# Altium footprint library PcbLib1.PcbLib: 1 footprints
Each footprint in its own frame and in the unit in brackets; x right, y up, seen from the top. Pads: shape width x height; smd on the part's side, far side on the other; paste and mask are expansions set on the pad; w line width, h text height; cw(c..) or ccw(c..) is an arc to the next point about the centre after c.
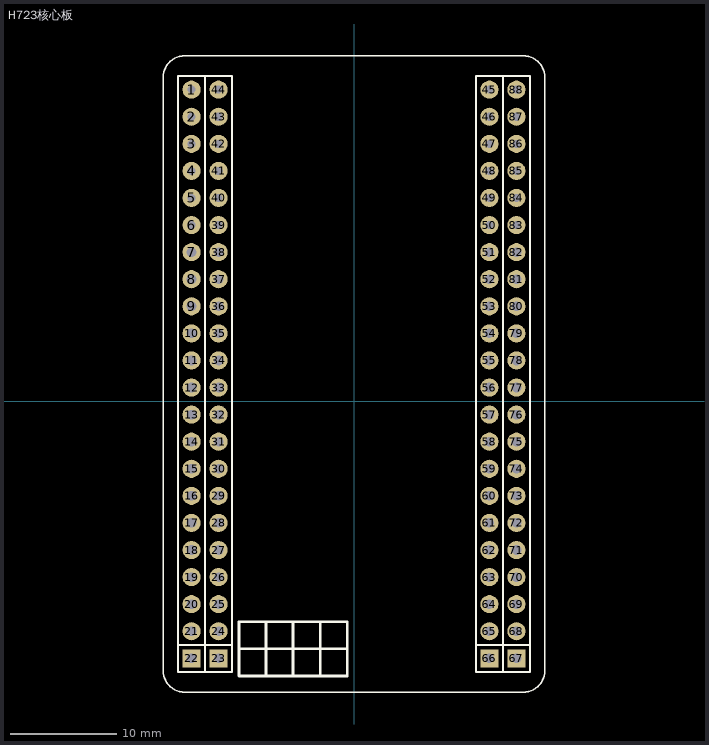
[diagram p0: the footprint, top view; thin cyan lines are the x and y axes]

## H723核心板 [mm]
pads (88):
  round 1.7 hole 0.762: 1(-15.24,29.21) 2(-15.24,26.67) 3(-15.24,24.13) 4(-15.24,21.59) 5(-15.24,19.05) 6(-15.24,16.51) 39(-12.7,16.51) 40(-12.7,19.05) 41(-12.7,21.59) 42(-12.7,24.13) 43(-12.7,26.67) 44(-12.7,29.21) 45(12.7,29.21) 46(12.7,26.67) 47(12.7,24.13) 48(12.7,21.59) 49(12.7,19.05) 50(12.7,16.51) 83(15.24,16.51) 84(15.24,19.05) 85(15.24,21.59) 86(15.24,24.13) 87(15.24,26.67) 88(15.24,29.21)
  round 1.7 hole 0.9: 7(-15.24,13.97) 8(-15.24,11.43) 9(-15.24,8.89) 10(-15.24,6.35) 11(-15.24,3.81) 12(-15.24,1.27) 13(-15.24,-1.27) 14(-15.24,-3.81) 15(-15.24,-6.35) 16(-15.24,-8.89) 17(-15.24,-11.43) 18(-15.24,-13.97) 19(-15.24,-16.51) 20(-15.24,-19.05) 21(-15.24,-21.59) 24(-12.7,-21.59) 25(-12.7,-19.05) 26(-12.7,-16.51) 27(-12.7,-13.97) 28(-12.7,-11.43) 29(-12.7,-8.89) 30(-12.7,-6.35) 31(-12.7,-3.81) 32(-12.7,-1.27) 33(-12.7,1.27) 34(-12.7,3.81) 35(-12.7,6.35) 36(-12.7,8.89) 37(-12.7,11.43) 38(-12.7,13.97) 51(12.7,13.97) 52(12.7,11.43) 53(12.7,8.89) 54(12.7,6.35) 55(12.7,3.81) 56(12.7,1.27) 57(12.7,-1.27) 58(12.7,-3.81) 59(12.7,-6.35) 60(12.7,-8.89) 61(12.7,-11.43) 62(12.7,-13.97) 63(12.7,-16.51) 64(12.7,-19.05) 65(12.7,-21.59) 68(15.24,-21.59) 69(15.24,-19.05) 70(15.24,-16.51) 71(15.24,-13.97) 72(15.24,-11.43) 73(15.24,-8.89) 74(15.24,-6.35) 75(15.24,-3.81) 76(15.24,-1.27) 77(15.24,1.27) 78(15.24,3.81) 79(15.24,6.35) 80(15.24,8.89) 81(15.24,11.43) 82(15.24,13.97)
  rect 1.7x1.7 hole 0.9: 22(-15.24,-24.13) 23(-12.7,-24.13) 66(12.7,-24.13) 67(15.24,-24.13)
Top Overlay:
  lines w0.152: -17.907,-25.273 ccw(c-15.875,-25.273) -15.875,-27.305 15.875,-27.305 ccw(c15.875,-25.273) 17.907,-25.273 17.907,30.353 ccw(c15.875,30.353) 15.875,32.385 -15.875,32.385 ccw(c-15.875,30.353) -17.907,30.353 -17.907,-25.273
  lines w0.2: -16.49,-22.88 -13.99,-22.88 ; -13.95,-22.88 -11.45,-22.88 ; 11.43,-20.32 11.43,-22.86 11.43,-25.4 ; 11.45,-22.88 13.95,-22.88 ; 13.99,-22.88 16.49,-22.88 ; -13.97,-25.4 -16.51,-25.4 -16.51,-23.495 -16.51,30.48 -11.43,30.48 -11.43,25.4 -11.43,-25.4 -13.97,-25.4 ; -13.97,-25.4 -13.97,30.48 -13.97,-18.415 -13.97,-25.4 ; 11.43,-25.4 11.43,-23.495 11.43,30.48 13.97,30.48 ; 11.43,-25.4 13.97,-25.4 ; 13.97,-25.4 13.97,30.48 ; 13.97,-25.4 13.97,-23.495 13.97,30.48 ; 13.97,-25.4 16.51,-25.4 16.51,30.48 13.97,30.48
  lines w0.254: -10.795,-23.241 -0.635,-23.241 ; -8.255,-25.781 -8.255,-20.701 ; -5.715,-25.781 -5.715,-20.701 ; -3.175,-25.781 -3.175,-20.701 ; -10.795,-25.781 -0.635,-25.781 -0.635,-20.701 -10.795,-20.701 -10.795,-25.781
3D body "HDR2.54-1P_M.STEP": height 8.5, standoff -3, extent 11.43,-22.86 13.97,-20.32
3D body "HDR2.54-1P_M.STEP": height 8.5, standoff -3, extent 11.43,-25.4 13.97,-22.86
3D body "HDR2.54-1P_M.STEP": height 8.5, standoff -3, extent 11.43,-17.78 13.97,-15.24
3D body "HDR2.54-1P_M.STEP": height 8.5, standoff -3, extent 11.43,-20.32 13.97,-17.78
3D body "HDR2.54-1P_M.STEP": height 8.5, standoff -3, extent 11.43,-12.7 13.97,-10.16
3D body "HDR2.54-1P_M.STEP": height 8.5, standoff -3, extent 11.43,-15.24 13.97,-12.7
3D body "HDR2.54-1P_M.STEP": height 8.5, standoff -3, extent 11.43,-7.62 13.97,-5.08
3D body "HDR2.54-1P_M.STEP": height 8.5, standoff -3, extent 11.43,-10.16 13.97,-7.62
3D body "HDR2.54-1P_M.STEP": height 8.5, standoff -3, extent 11.43,-2.54 13.97,0
3D body "HDR2.54-1P_M.STEP": height 8.5, standoff -3, extent 11.43,-5.08 13.97,-2.54
3D body "HDR2.54-1P_M.STEP": height 8.5, standoff -3, extent 11.43,0 13.97,2.54
3D body "HDR2.54-1P_M.STEP": height 8.5, standoff -3, extent 11.43,7.62 13.97,10.16
3D body "HDR2.54-1P_M.STEP": height 8.5, standoff -3, extent 11.43,5.08 13.97,7.62
3D body "HDR2.54-1P_M.STEP": height 8.5, standoff -3, extent 11.43,12.7 13.97,15.24
3D body "HDR2.54-1P_M.STEP": height 8.5, standoff -3, extent 11.43,10.16 13.97,12.7
3D body "HDR2.54-1P_M.STEP": height 8.5, standoff -3, extent 11.43,17.78 13.97,20.32
3D body "HDR2.54-1P_M.STEP": height 8.5, standoff -3, extent 11.43,15.24 13.97,17.78
3D body "HDR2.54-1P_M.STEP": height 8.5, standoff -3, extent 11.43,22.86 13.97,25.4
3D body "HDR2.54-1P_M.STEP": height 8.5, standoff -3, extent 11.43,20.32 13.97,22.86
3D body "HDR2.54-1P_M.STEP": height 8.5, standoff -3, extent 11.43,2.54 13.97,5.08
3D body "HDR2.54-1P_M.STEP": height 8.5, standoff -3, extent 13.97,-22.86 16.51,-20.32
3D body "HDR2.54-1P_M.STEP": height 8.5, standoff -3, extent 13.97,-25.4 16.51,-22.86
3D body "HDR2.54-1P_M.STEP": height 8.5, standoff -3, extent 13.97,-17.78 16.51,-15.24
3D body "HDR2.54-1P_M.STEP": height 8.5, standoff -3, extent 13.97,-20.32 16.51,-17.78
3D body "HDR2.54-1P_M.STEP": height 8.5, standoff -3, extent 13.97,-12.7 16.51,-10.16
3D body "HDR2.54-1P_M.STEP": height 8.5, standoff -3, extent 13.97,-15.24 16.51,-12.7
3D body "HDR2.54-1P_M.STEP": height 8.5, standoff -3, extent 13.97,-7.62 16.51,-5.08
3D body "HDR2.54-1P_M.STEP": height 8.5, standoff -3, extent 13.97,-10.16 16.51,-7.62
3D body "HDR2.54-1P_M.STEP": height 8.5, standoff -3, extent 13.97,-2.54 16.51,0
3D body "HDR2.54-1P_M.STEP": height 8.5, standoff -3, extent 13.97,-5.08 16.51,-2.54
3D body "HDR2.54-1P_M.STEP": height 8.5, standoff -3, extent 13.97,0 16.51,2.54
3D body "HDR2.54-1P_M.STEP": height 8.5, standoff -3, extent 13.97,7.62 16.51,10.16
3D body "HDR2.54-1P_M.STEP": height 8.5, standoff -3, extent 13.97,5.08 16.51,7.62
3D body "HDR2.54-1P_M.STEP": height 8.5, standoff -3, extent 13.97,12.7 16.51,15.24
3D body "HDR2.54-1P_M.STEP": height 8.5, standoff -3, extent 13.97,10.16 16.51,12.7
3D body "HDR2.54-1P_M.STEP": height 8.5, standoff -3, extent 13.97,17.78 16.51,20.32
3D body "HDR2.54-1P_M.STEP": height 8.5, standoff -3, extent 13.97,15.24 16.51,17.78
3D body "HDR2.54-1P_M.STEP": height 8.5, standoff -3, extent 13.97,22.86 16.51,25.4
3D body "HDR2.54-1P_M.STEP": height 8.5, standoff -3, extent 13.97,20.32 16.51,22.86
3D body "HDR2.54-1P_M.STEP": height 8.5, standoff -3, extent 13.97,2.54 16.51,5.08
3D body "HDR2.54-1P_M.STEP": height 8.5, standoff -3, extent -16.51,-22.86 -13.97,-20.32
3D body "HDR2.54-1P_M.STEP": height 8.5, standoff -3, extent -16.51,-25.4 -13.97,-22.86
3D body "HDR2.54-1P_M.STEP": height 8.5, standoff -3, extent -16.51,-17.78 -13.97,-15.24
3D body "HDR2.54-1P_M.STEP": height 8.5, standoff -3, extent -16.51,-20.32 -13.97,-17.78
3D body "HDR2.54-1P_M.STEP": height 8.5, standoff -3, extent -16.51,-12.7 -13.97,-10.16
3D body "HDR2.54-1P_M.STEP": height 8.5, standoff -3, extent -16.51,-15.24 -13.97,-12.7
3D body "HDR2.54-1P_M.STEP": height 8.5, standoff -3, extent -16.51,-7.62 -13.97,-5.08
3D body "HDR2.54-1P_M.STEP": height 8.5, standoff -3, extent -16.51,-10.16 -13.97,-7.62
3D body "HDR2.54-1P_M.STEP": height 8.5, standoff -3, extent -16.51,-2.54 -13.97,0
3D body "HDR2.54-1P_M.STEP": height 8.5, standoff -3, extent -16.51,-5.08 -13.97,-2.54
3D body "HDR2.54-1P_M.STEP": height 8.5, standoff -3, extent -16.51,0 -13.97,2.54
3D body "HDR2.54-1P_M.STEP": height 8.5, standoff -3, extent -16.51,7.62 -13.97,10.16
3D body "HDR2.54-1P_M.STEP": height 8.5, standoff -3, extent -16.51,5.08 -13.97,7.62
3D body "HDR2.54-1P_M.STEP": height 8.5, standoff -3, extent -16.51,12.7 -13.97,15.24
3D body "HDR2.54-1P_M.STEP": height 8.5, standoff -3, extent -16.51,10.16 -13.97,12.7
3D body "HDR2.54-1P_M.STEP": height 8.5, standoff -3, extent -16.51,17.78 -13.97,20.32
3D body "HDR2.54-1P_M.STEP": height 8.5, standoff -3, extent -16.51,15.24 -13.97,17.78
3D body "HDR2.54-1P_M.STEP": height 8.5, standoff -3, extent -16.51,22.86 -13.97,25.4
3D body "HDR2.54-1P_M.STEP": height 8.5, standoff -3, extent -16.51,20.32 -13.97,22.86
3D body "HDR2.54-1P_M.STEP": height 8.5, standoff -3, extent -16.51,2.54 -13.97,5.08
3D body "HDR2.54-1P_M.STEP": height 8.5, standoff -3, extent -13.97,-22.86 -11.43,-20.32
3D body "HDR2.54-1P_M.STEP": height 8.5, standoff -3, extent -13.97,-25.4 -11.43,-22.86
3D body "HDR2.54-1P_M.STEP": height 8.5, standoff -3, extent -13.97,-17.78 -11.43,-15.24
3D body "HDR2.54-1P_M.STEP": height 8.5, standoff -3, extent -13.97,-20.32 -11.43,-17.78
3D body "HDR2.54-1P_M.STEP": height 8.5, standoff -3, extent -13.97,-12.7 -11.43,-10.16
3D body "HDR2.54-1P_M.STEP": height 8.5, standoff -3, extent -13.97,-15.24 -11.43,-12.7
3D body "HDR2.54-1P_M.STEP": height 8.5, standoff -3, extent -13.97,-7.62 -11.43,-5.08
3D body "HDR2.54-1P_M.STEP": height 8.5, standoff -3, extent -13.97,-10.16 -11.43,-7.62
3D body "HDR2.54-1P_M.STEP": height 8.5, standoff -3, extent -13.97,-2.54 -11.43,0
3D body "HDR2.54-1P_M.STEP": height 8.5, standoff -3, extent -13.97,-5.08 -11.43,-2.54
3D body "HDR2.54-1P_M.STEP": height 8.5, standoff -3, extent -13.97,0 -11.43,2.54
3D body "HDR2.54-1P_M.STEP": height 8.5, standoff -3, extent -13.97,7.62 -11.43,10.16
3D body "HDR2.54-1P_M.STEP": height 8.5, standoff -3, extent -13.97,5.08 -11.43,7.62
3D body "HDR2.54-1P_M.STEP": height 8.5, standoff -3, extent -13.97,12.7 -11.43,15.24
3D body "HDR2.54-1P_M.STEP": height 8.5, standoff -3, extent -13.97,10.16 -11.43,12.7
3D body "HDR2.54-1P_M.STEP": height 8.5, standoff -3, extent -13.97,17.78 -11.43,20.32
3D body "HDR2.54-1P_M.STEP": height 8.5, standoff -3, extent -13.97,15.24 -11.43,17.78
3D body "HDR2.54-1P_M.STEP": height 8.5, standoff -3, extent -13.97,22.86 -11.43,25.4
3D body "HDR2.54-1P_M.STEP": height 8.5, standoff -3, extent -13.97,20.32 -11.43,22.86
3D body "HDR2.54-1P_M.STEP": height 8.5, standoff -3, extent -13.97,2.54 -11.43,5.08
3D body "HDR2.54-1P_M.STEP": height 8.5, standoff -3, extent -16.51,27.94 -13.97,30.48
3D body "HDR2.54-1P_M.STEP": height 8.5, standoff -3, extent -16.51,25.4 -13.97,27.94
3D body "HDR2.54-1P_M.STEP": height 8.5, standoff -3, extent -13.97,27.94 -11.43,30.48
3D body "HDR2.54-1P_M.STEP": height 8.5, standoff -3, extent -13.97,25.4 -11.43,27.94
3D body "HDR2.54-1P_M.STEP": height 8.5, standoff -3, extent 11.43,27.94 13.97,30.48
3D body "HDR2.54-1P_M.STEP": height 8.5, standoff -3, extent 11.43,25.4 13.97,27.94
3D body "HDR2.54-1P_M.STEP": height 8.5, standoff -3, extent 13.97,27.94 16.51,30.48
3D body "HDR2.54-1P_M.STEP": height 8.5, standoff -3, extent 13.97,25.4 16.51,27.94